# Altium integrated library Darlington NPN.IntLib: 2 symbols
Pins are listed as number, name and electrical type; pins without a type are passive.

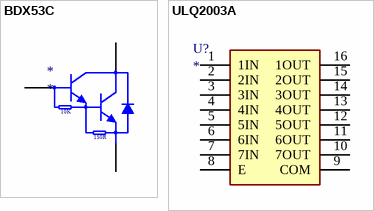
[diagram p0: symbols BDX53C to ULQ2003A]

## BDX53C
designator *
datasheet: https://www.mouser.es/datasheet/2/389/cd00000902-1795594.pdf; ComponentLink1Description: mouser; ComponentLink1URL: https://www.mouser.es/ProductDetail/STMicroelectronics/BDX53C?qs=tZUCD5p2VWpImvChS%252BmGgg%3D%3D
footprint TO-220
pins: 1 B, 2 C, 3 E
text: 10K; 150R

## ULQ2003A
designator U?
datasheet: https://www.mouser.es/datasheet/2/389/cd00000180-1795081.pdf
footprint SOIC127P600X175-16N
pins: 1 1IN, 2 2IN, 3 3IN, 4 4IN, 5 5IN, 6 6IN, 7 7IN, 8 E, 9 COM, 10 7OUT, 11 6OUT, 12 5OUT, 13 4OUT, 14 3OUT, 15 2OUT, 16 1OUT